# Altium footprint library 我的PCB.PcbLib: 347 footprints (part 18 of 22)
Each footprint in its own frame and in the unit in brackets; x right, y up, seen from the top. Pads: shape width x height; smd on the part's side, far side on the other; paste and mask are expansions set on the pad; w line width, h text height; cw(c..) or ccw(c..) is an arc to the next point about the centre after c.
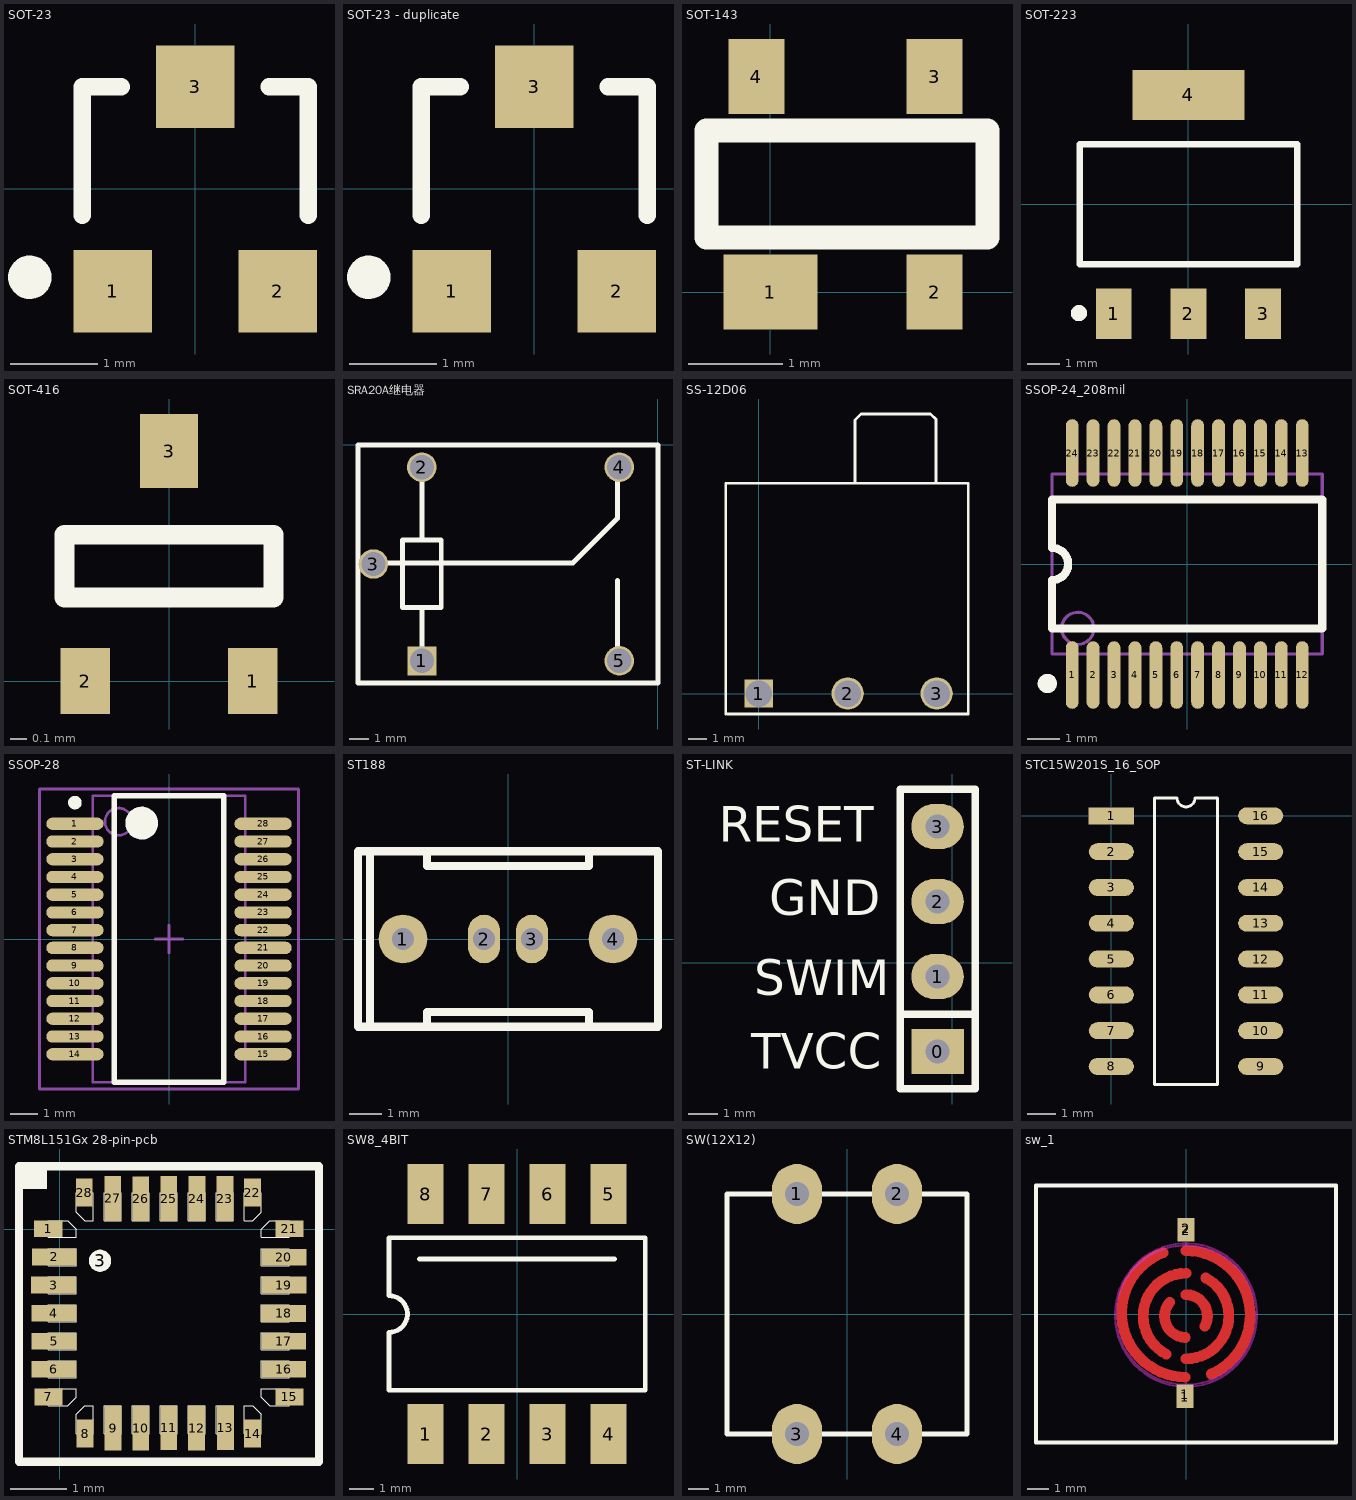
[diagram p17: the footprints below, top view; thin cyan lines are the x and y axes]

## SOT-23 [mm]
height 1.1
pads (3):
  rect 0.9x0.95 smd: 1(-0.95,-1.175) 2(0.95,-1.175) 3(0,1.175)
Top Overlay:
  circle w0.25: c-1.903,-1.016 r0.125
  lines w0.2: -1.3,-0.3 -1.3,1.175 -0.85,1.175 ; 0.85,1.175 1.3,1.175 1.3,-0.3

## SOT-23 - duplicate [mm]
height 1.1
pads (3):
  rect 0.9x0.95 smd: 1(-0.95,-1.175) 2(0.95,-1.175) 3(0,1.175)
Top Overlay:
  circle w0.25: c-1.903,-1.016 r0.125
  lines w0.2: -1.3,-0.3 -1.3,1.175 -0.85,1.175 ; 0.85,1.175 1.3,1.175 1.3,-0.3

## SOT-143 [mm]
pads (4):
  rect 1x0.8 smd: 1(0,0)
  rect 0.6x0.8 smd: 2(1.75,0) 3(1.75,2.3) 4(-0.15,2.3)
Top Overlay:
  lines w0.254: -0.683,0.583 2.317,0.583 2.317,1.726 -0.683,1.726 -0.683,0.583
3D body: height 1, standoff 0, extent -0.66,-0.06 2.26,2.36

## SOT-223 [mm]
height 1.8
pads (4):
  rect 1.1x1.55 smd: 1(-2.3,-3.375) 2(0,-3.375) 3(2.3,-3.375)
  rect 3.45x1.55 smd: 4(0,3.375)
Top Overlay:
  circle w0.25: c-3.376,-3.353 r0.125
  lines w0.2: -3.35,-1.85 -3.35,1.85 3.35,1.85 3.35,-1.85 -3.35,-1.85
3D body: height 0.8, standoff 0, extent -3.302,-2.032 3.302,2.159
3D body: height 0.3, standoff 0, extent -1.651,2.159 1.651,3.429
3D body: height 0.3, standoff 0, extent -2.794,-3.937 -1.905,-2.032
3D body: height 0.3, standoff 0, extent -0.508,-3.937 0.381,-2.032
3D body: height 0.3, standoff 0, extent 1.905,-3.937 2.794,-2.032

## SOT-416 [mm]
height 0.7
pads (3):
  rect 0.3x0.4 smd: 1(0.508,0) 2(-0.508,0)
  rect 0.35x0.45 smd: 3(0,1.397)
Top Overlay:
  lines w0.12: -0.635,0.508 0.635,0.508 0.635,0.889 -0.635,0.889 -0.635,0.508

## SRA20A继电器 [mm]
pads (5):
  rect 1.5x1.5 hole 1.25: 1(-12.2,-11.15)
  round 1.524 hole 1.25: 2(-12.2,-1.15) 3(-14.7,-6.15) 4(-2,-1.15) 5(-2,-11.15)
Top Overlay:
  lines w0.254: -14.2,-6.1 -4.4,-6.1 -2.1,-3.8 -2.1,-1.15 ; -12.2,-11.5 -12.2,-8.4 ; -12.2,-4.8 -12.2,-1.1 ; -2.1,-11.1 -2.1,-7 ; -15.5,-12.3 0,-12.3 0,0 -15.5,0 -15.5,-12.3 ; -13.2,-8.4 -11.2,-8.4 -11.2,-4.9 -13.2,-4.9 -13.2,-8.4

## SS-12D06 [mm]
pads (3):
  rect 1.5x1.5 hole 1.4: 1(0,0)
  round 1.7 hole 1.4: 2(4.7,0) 3(9.4,0)
Top Overlay:
  lines w0.15: -1.74,-1.08 -1.74,11.1 11.07,11.1 11.07,1.4 11.07,-1.08 ; -1.65,-1.08 11.05,-1.08 ; 5.09,11.1 5.09,14.44 5.41,14.76 9.08,14.76 9.36,14.48 9.36,11.18

## SSOP-24_208mil [mm]
pads (24):
  oval 0.4x2.1 smd mask+0.051: 1(-3.575,-3.45) 2(-2.925,-3.45) 3(-2.275,-3.45) 4(-1.625,-3.45) 5(-0.975,-3.45) 6(-0.325,-3.45) 7(0.325,-3.45) 8(0.975,-3.45) 9(1.625,-3.45) 10(2.275,-3.45) 11(2.925,-3.45) 12(3.575,-3.45) 13(3.575,3.45) 14(2.925,3.45) 15(2.275,3.45) 16(1.625,3.45) 17(0.975,3.45) 18(0.325,3.45) 19(-0.325,3.45) 20(-0.975,3.45) 21(-1.625,3.45) 22(-2.275,3.45) 23(-2.925,3.45) 24(-3.575,3.45)
Top Overlay:
  circle w0.3: c-4.347,-3.715 r0.15
  lines w0.254: -4.2,-2 -4.2,-0.5 ccw(c-4.2,0) -4.2,0.5 -4.2,2 4.2,2 4.2,-2 -4.2,-2
Mechanical 13:
  circle w0.1: c-3.4,-2 r0.5
  lines w0.1: -4.2,-2.8 -4.2,2.8 4.2,2.8 4.2,-2.8 -4.2,-2.8

## SSOP-28 [mm] "FT232"
height 2
pads (28):
  oval 2.1x0.45 smd: 1(-3.45,4.225) 2(-3.45,3.575) 3(-3.45,2.925) 4(-3.45,2.275) 5(-3.45,1.625) 6(-3.45,0.975) 7(-3.45,0.325) 8(-3.45,-0.325) 9(-3.45,-0.975) 10(-3.45,-1.625) 11(-3.45,-2.275) 12(-3.45,-2.925) 13(-3.45,-3.575) 14(-3.45,-4.225) 15(3.45,-4.225) 16(3.45,-3.575) 17(3.45,-2.925) 18(3.45,-2.275) 19(3.45,-1.625) 20(3.45,-0.975) 21(3.45,-0.325) 22(3.45,0.325) 23(3.45,0.975) 24(3.45,1.625) 25(3.45,2.275) 26(3.45,2.925) 27(3.45,3.575) 28(3.45,4.225)
Top Overlay:
  circle w0.6: c-1,4.25 r0.3
  circle w0.25: c-3.45,5 r0.125
  lines w0.2: -2,-5.25 2,-5.25 2,5.25 -2,5.25 -2,-5.25
Mechanical 13:
  circle w0.1: c-1.85,4.3 r0.5
  lines w0.1: -2.8,-5.25 2.8,-5.25 2.8,5.25 -2.8,5.25 -2.8,-5.25
Mechanical 15:
  lines w0.1: -0.5,0 0.5,0 ; 0,-0.5 0,0.5 ; -4.75,-5.5 4.75,-5.5 4.75,5.5 -4.75,5.5 -4.75,-5.5
3D body: height 2, standoff 0.09, extent -2.8,-5.25 2.8,5.25

## ST188 [mm] "反射式光电传感器"
height 8.2
pads (4):
  round 1.524 hole 0.7: 1(-3.29,0) 4(3.29,0)
  oval 1x1.524 hole 0.7: 2(-0.75,0) 3(0.75,0)
Top Overlay:
  lines w0.254: -4.318,-2.75 -4.318,2.75 ; -2.54,-2.75 -2.54,-2.286 2.54,-2.286 2.54,-2.75 ; -2.54,2.75 -2.54,2.286 2.54,2.286 2.54,2.75 ; -4.7,-2.75 -4.7,2.75 4.7,2.75 4.7,-2.75 -4.7,-2.75

## ST-LINK [mil]
pads (4):
  rect 70x60 hole 32: 0(-19.68,-118.5)
  oval 70x60 hole 32: 1(-19.68,-18.5) 2(-19.68,81.5) 3(-19.68,181.5)
Top Overlay:
  lines w10: -69.69,-68.5 30.32,-68.5 ; -69.69,-168.5 30.32,-168.5 30.32,231.5 -69.69,231.5 -69.69,-168.5
  text "TVCC" at -267.72,-141.73 h47.24
  text "SWIM" at -263.78,-43.31 h47.24
  text "GND" at -244.09,62.99 h47.24
  text "RESET" at -311.02,161.42 h47.24
3D body: height 336.22, standoff -118.11, extent -68.5,-169.29 31.5,230.71

## STC15W201S_16_SOP [mm]
pads (16):
  rect 1.6x0.6 smd: 1(0,0)
  oval 1.6x0.6 smd: 2(0,-1.27) 3(0,-2.54) 4(0,-3.81) 5(0,-5.08) 6(0,-6.35) 7(0,-7.62) 8(0,-8.89) 9(5.3,-8.89) 10(5.3,-7.62) 11(5.3,-6.35) 12(5.3,-5.08) 13(5.3,-3.81) 14(5.3,-2.54) 15(5.3,-1.27) 16(5.3,0)
Top Overlay:
  lines w0.1: 1.535,-9.525 3.765,-9.525 3.765,0.635 2.967,0.635 cw(c2.65,0.635) 2.332,0.635 1.535,0.635 1.535,-9.525

## STM8L151Gx 28-pin-pcb [mm]
pads (29):
  rect 0.5x0.3 smd: 1(-0.208,0.008) 7(-0.207,-2.99) 15(4.092,-2.99) 21(4.092,0.009)
  rect 0.8x0.3 smd: 2(-0.1,-0.495) 3(-0.112,-0.995) 4(-0.108,-1.498) 5(-0.104,-1.997) 6(-0.109,-2.496) 16(3.992,-2.496) 17(3.992,-1.998) 18(3.988,-1.5) 19(3.996,-0.997) 20(3.996,-0.499)
  round 0.4 on Top Overlay: 3(0.716,-0.562)
  rect 0.3x0.5 smd: 8(0.45,-3.647) 14(3.435,-3.647) 22(3.435,0.652) 28(0.436,0.653)
  rect 0.3x0.8 smd: 9(0.949,-3.547) 10(1.441,-3.547) 11(1.94,-3.541) 12(2.439,-3.547) 13(2.951,-3.541) 23(2.942,0.547) 24(2.443,0.547) 25(1.941,0.547) 26(1.443,0.543) 27(0.943,0.549)
Top Overlay:
  rectangle: -0.729,0.722 -0.233,1.122
  lines w0.01: -0.208,-3.147 0.142,-3.147 0.292,-2.997 0.292,-2.847 -0.208,-2.847 -0.208,-3.147 ; -0.208,-2.647 0.292,-2.647 0.292,-2.347 -0.208,-2.347 -0.208,-2.647 ; -0.208,-2.147 -0.208,-1.847 0.292,-1.847 0.292,-2.147 -0.208,-2.147 ; -0.208,-1.647 0.292,-1.647 0.292,-1.347 -0.208,-1.347 -0.208,-1.647 ; -0.208,-1.147 0.292,-1.147 0.292,-0.847 -0.208,-0.847 -0.208,-1.147 ; -0.208,-0.647 0.292,-0.647 0.292,-0.347 -0.208,-0.347 -0.208,-0.647 ; -0.208,-0.147 0.292,-0.147 0.292,0.003 0.142,0.153 -0.208,0.153 -0.208,-0.147 ; 0.292,-3.647 0.592,-3.647 0.592,-3.147 0.442,-3.147 0.292,-3.297 0.292,-3.647 ; 0.292,0.303 0.442,0.153 0.592,0.153 0.592,0.653 0.292,0.653 0.292,0.303 ; 0.792,-3.647 1.092,-3.647 1.092,-3.147 0.792,-3.147 0.792,-3.647 ; 0.792,0.153 1.092,0.153 1.092,0.653 0.792,0.653 0.792,0.153 ; 1.292,-3.647 1.592,-3.647 1.592,-3.147 1.292,-3.147 1.292,-3.647 ; 1.292,0.153 1.592,0.153 1.592,0.653 1.292,0.653 1.292,0.153 ; 1.792,-3.647 1.792,-3.147 2.092,-3.147 2.092,-3.647 1.792,-3.647 ; 1.792,0.153 2.092,0.153 2.092,0.653 1.792,0.653 1.792,0.153 ; 2.292,-3.647 2.292,-3.147 2.592,-3.147 2.592,-3.647 2.292,-3.647 ; 2.292,0.153 2.592,0.153 2.592,0.653 2.292,0.653 2.292,0.153 ; 2.792,-3.647 2.792,-3.147 3.092,-3.147 3.092,-3.647 2.792,-3.647 ; 2.792,0.153 3.092,0.153 3.092,0.653 2.792,0.653 2.792,0.153 ; 3.292,-3.647 3.292,-3.147 3.442,-3.147 3.592,-3.297 3.592,-3.647 3.292,-3.647 ; 3.292,0.153 3.442,0.153 3.592,0.303 3.592,0.653 3.292,0.653 3.292,0.153 ; 3.592,-2.997 3.742,-3.147 4.092,-3.147 4.092,-2.847 3.592,-2.847 3.592,-2.997 ; 3.592,-2.647 4.092,-2.647 4.092,-2.347 3.592,-2.347 3.592,-2.647 ; 3.592,-2.147 4.092,-2.147 4.092,-1.847 3.592,-1.847 3.592,-2.147 ; 3.592,-1.647 4.092,-1.647 4.092,-1.347 3.592,-1.347 3.592,-1.647 ; 3.592,-1.147 4.092,-1.147 4.092,-0.847 3.592,-0.847 3.592,-1.147 ; 3.592,-0.647 4.092,-0.647 4.092,-0.347 3.592,-0.347 3.592,-0.647 ; 3.592,-0.147 4.092,-0.147 4.092,0.153 3.742,0.153 3.592,0.003 3.592,-0.147
  lines w0.15: -0.729,-4.145 -0.729,1.122 4.621,1.122 4.621,-4.145 -0.729,-4.145
Top Solder:
  drawing of 797 lines, arcs and shapes, not listed

## SW8_4BIT [mm] "贴片拨码开关"
height 1.75
pads (8):
  rect 1.5x2.5 smd: 1(-3.81,-5) 2(-1.27,-5) 3(1.27,-5) 4(3.81,-5) 5(3.81,5) 6(1.27,5) 7(-1.27,5) 8(-3.81,5)
Top Overlay:
  lines w0.2: -4.064,2.286 4.064,2.286 ; -5.334,-3.175 5.334,-3.175 5.334,3.175 -5.334,3.175 -5.334,0.762 cw(c-5.334,0) -5.334,-0.762 -5.334,-3.175
3D body: height 2.15, standoff 2.05, extent 3.048,0.889 4.572,2.413
3D body: height 2.15, standoff 2.05, extent 0.508,0.889 2.032,2.413
3D body: height 2.15, standoff 2.05, extent -2.032,-2.032 -0.508,-0.508
3D body: height 2.15, standoff 2.05, extent -4.572,0.889 -3.048,2.413
3D body: height 2.05, standoff 2, extent 3.048,-2.032 4.572,2.413
3D body: height 2.05, standoff 2, extent 0.508,-2.032 2.032,2.413
3D body: height 2.05, standoff 2, extent -2.032,-2.032 -0.508,2.413
3D body: height 2.05, standoff 2, extent -4.572,-2.032 -3.048,2.413
3D body: height 2, standoff 0, extent -5.207,-3.429 5.08,3.429

## SW(12X12) [mm]
pads (4):
  oval 2.5x3 hole 1.2: 1(-2.5,6) 2(2.5,6) 3(-2.5,-6) 4(2.5,-6)
Top Overlay:
  lines w0.25: -6,-6 -6,6 6,6 6,-6 -6,-6

## sw_1 [mm]
pads (4):
  rect 0.8x1 smd: 1(-0.039,-3.879) 1(-0.039,-3.779) 2(0,3.89) 2(0,3.99)
Top Layer:
  lines w0.5: -1.068,2.858 ccw(c-0.005,0.053) -0.039,-2.947 ; -0.927,-1.872 cw(c0,-0.1) 0,1.9 ; -0.757,0.553 ccw(c0,-0.1) -0.039,-1.099 ; 0,-2.09 ccw(c0,-0.09) 0.927,1.682 ; 0,0.9 cw(c0,-0.1) 0.879,-0.576 ; 0,2.957 cw(c-0.005,-0.043) 1.179,-2.799
Top Overlay:
  lines w0.2: -7,-6 -7,6 7,6 7,-6 -7,-6
Top Solder:
  lines w0.5: -0.039,-3.879 -0.039,-1.12 ; 0,1 0,3.99
  lines w0.7: -1.068,2.758 ccw(c-0.005,-0.047) -0.039,-3.047 ; -0.926,-1.772 cw(c0,0) 0,2 ; -0.757,0.653 ccw(c0,0) -0.039,-0.999 ; -0.039,-3.779 -0.039,-1.02 ; 0,-1.99 ccw(c0,0.01) 0.926,1.782 ; 0,0.9 0,3.89 ; 0,1 cw(c0,0) 0.879,-0.476 ; 0,3.057 cw(c-0.005,0.057) 1.179,-2.699
Top Solder keep-out:
  lines w0.1: 3.3,-0.1 cw(c0,-0.1) 3.3,-0.08 ; 3.3,0 cw(c0,0) 3.3,0.02